# Altium footprint library DSUB-37.PcbLib: 1 footprints
Each footprint in its own frame and in the unit in brackets; x right, y up, seen from the top. Pads: shape width x height; smd on the part's side, far side on the other; paste and mask are expansions set on the pad; w line width, h text height; cw(c..) or ccw(c..) is an arc to the next point about the centre after c.
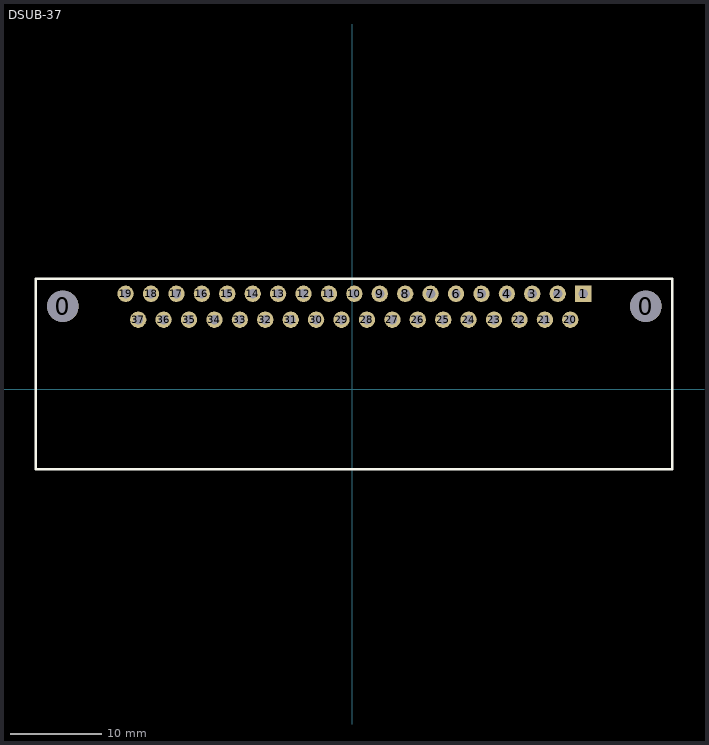
[diagram p0: the footprint, top view; thin cyan lines are the x and y axes]

## DSUB-37 [mil] "37 Pin DB Connector"
pads (39):
  round 135 hole 135: 0(-1240,355) 0(1260,355)
  rect 70x70 hole 40: 1(991,409)
  round 70 hole 40: 2(882,409) 3(773,409) 4(664,409) 5(555,409) 6(446,409) 7(337,409) 8(228,409) 9(119,409) 10(10,409) 11(-99,409) 12(-208,409) 13(-317,409) 14(-426,409) 15(-535,409) 16(-644,409) 17(-753,409) 18(-862,409) 19(-971,409) 20(936,298) 21(827,298) 22(718,298) 23(609,298) 24(500,298) 25(391,298) 26(282,298) 27(173,298) 28(64,298) 29(-45,298) 30(-154,298) 31(-263,298) 32(-372,298) 33(-481,298) 34(-590,298) 35(-699,298) 36(-808,298) 37(-917,298)
Top Overlay:
  lines w10: -1356,-344 -1356,474 1373,474 1373,-344 -1356,-344
3D body: height 487.05, standoff -177.32, extent -1354.56,-344.21 1374.57,474.68